# Altium schematic symbol library tyco-mte.SchLib: 3 symbols
Pins are listed as number, name and electrical type; pins without a type are passive.

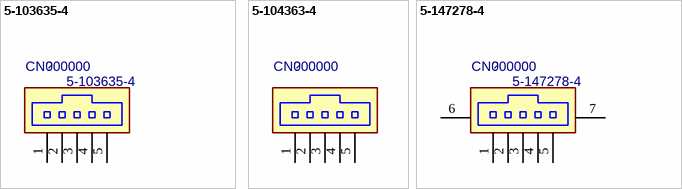
[diagram p0: symbols 5-103635-4 to 5-147278-4]

## 5-103635-4
designator CN?, comment 000000  value 5-103635-4
5pos, 2.54mm Wire to Board Connector, Header,  Right Angle; PN: 000000; Package: SMT; ExtraInfo: *
footprint 5-103635-4 (5pos, 2.54mm Wire to Board Connector, Header,  Right Angle)
pins: 1, 2, 3, 4, 5

## 5-104363-4
designator CN?, comment 000000
5pos, 2.54mm Wire to Board Connector, Header,  Right Angle; Value: 5-104363-4; PN: 000000; Package: SMT; ExtraInfo: *
footprint 5-104363-4 (5pos, 2.54mm Wire to Board Connector, Header,  Vertical)
pins: 1, 2, 3, 4, 5

## 5-147278-4
designator CN?, comment 000000  value 5-147278-4
5pos, 2.54mm Wire to Board Connector, Header, SMT, Right Angle; PN: 000000; Package: SMT; ExtraInfo: *
footprint 5-147278-4 (5pos, 2.54mm Wire to Board Connector, Header, SMT, Right Angle)
pins: 1, 2, 3, 4, 5, 6 TAB, 7 TAB